# Altium footprint library TMM-110-03-G-D.PcbLib: 1 footprints
Each footprint in its own frame and in the unit in brackets; x right, y up, seen from the top. Pads: shape width x height; smd on the part's side, far side on the other; paste and mask are expansions set on the pad; w line width, h text height; cw(c..) or ccw(c..) is an arc to the next point about the centre after c.
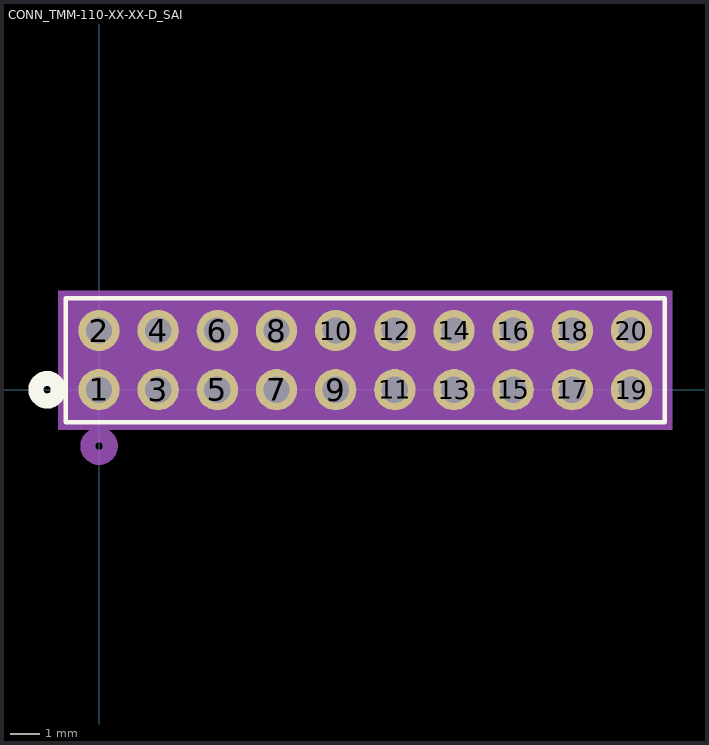
[diagram p0: the footprint, top view; thin cyan lines are the x and y axes]

## CONN_TMM-110-XX-XX-D_SAI [mil]
pads (20):
  round 55 hole 35 mask+0: 1(0,0) 2(0,78.74) 3(78.74,0) 4(78.74,78.74) 5(157.48,0) 6(157.48,78.74) 7(236.22,0) 8(236.22,78.74) 9(314.96,0) 10(314.96,78.74) 11(393.7,0) 12(393.7,78.74) 13(472.44,0) 14(472.44,78.74) 15(551.18,0) 16(551.18,78.74) 17(629.92,0) 18(629.92,78.74) 19(708.66,0) 20(708.66,78.74)
Top Overlay:
  circle w20: c-69.17,0 r15
  lines w6: -44.17,-43.13 752.83,-43.13 752.83,121.87 -44.17,121.87 -44.17,-43.13
Bottom Overlay:
  circle w20: c-69.17,0 r15
Mechanical 5:
  region: -54.17,131.87 762.83,131.87 762.83,-53.13 -54.17,-53.13
Mechanical 13:
  circle w20: c0,-75 r15
  lines w1: -39.17,-38.13 747.83,-38.13 747.83,116.87 -39.17,116.87 -39.17,-38.13
Mechanical 15:
  region: 757.83,126.87 -49.17,126.87 -49.17,-48.13 757.83,-48.13
  lines w6: -49.17,-48.13 -49.17,126.87 757.83,126.87 757.83,-48.13 -49.17,-48.13
3D body: height 10, standoff 0, extent 0,0 10,10